# Altium footprint library BMP180.PcbLib: 1 footprints
Each footprint in its own frame and in the unit in brackets; x right, y up, seen from the top. Pads: shape width x height; smd on the part's side, far side on the other; paste and mask are expansions set on the pad; w line width, h text height; cw(c..) or ccw(c..) is an arc to the next point about the centre after c.
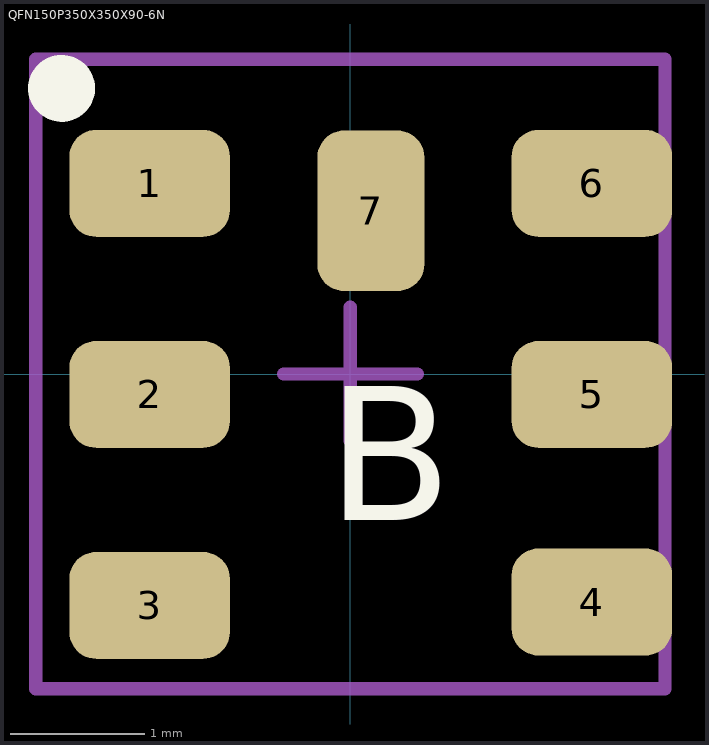
[diagram p0: the footprint, top view; thin cyan lines are the x and y axes]

## QFN150P350X350X90-6N [mm] "QFN, 6-Leads, Body 3.5x3.5mm (max), Pitch 1.50mm, IPC Medium Density"
height 0.9
pads (7):
  rrect50% 1.2x0.8 smd: 1(-1.5,1.424) 2(-1.5,-0.152) 3(-1.5,-1.729) 4(1.803,-1.703) 5(1.803,-0.152) 6(1.803,1.424)
  rrect50% 0.8x1.2 smd: 7(0.152,1.219)
Top Overlay:
  circle w0.25: c-2.157,2.134 r0.125
  text "B" at -0.178,-1.092 h1
Mechanical 15:
  lines w0.1: -0.5,0 0.5,0 ; 0,-0.5 0,0.5 ; -2.35,-2.35 2.35,-2.35 2.35,2.35 -2.35,2.35 -2.35,-2.35